# Altium schematic symbol library Capacitors.SCHLIB: 77 symbols (part 1 of 2)
Pins are listed as number, name and electrical type; pins without a type are passive.

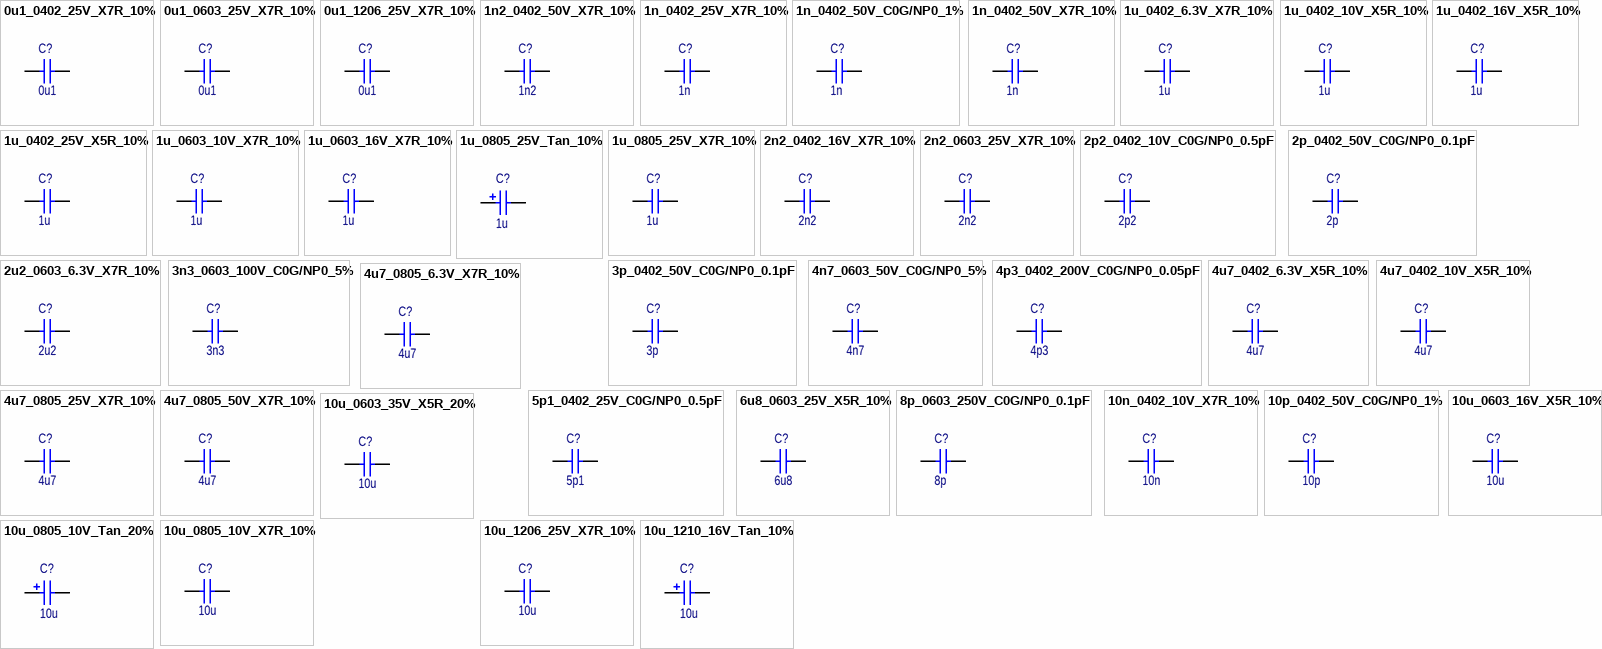
[diagram p0: symbols 0u1_0402_25V_X7R_10% to 10u_1210_16V_Tan_10%]

## 0u1_0402_25V_X7R_10%
designator C?, comment value 0u1  (hidden comment: CC0402KRX7R8BB104)
Capacitor; Ceramic; 0.1u; 0402; 25V; X7R; 10%; -55°C ~ 125°C; Manufacturer: Yageo; Manufacturer Part Number: CC0402KRX7R8BB104; Supplier 1: DigiKey; Supplier Part Number 1: 311-2077-6-ND; ComponentLink1Description: Datasheet; ComponentLink1URL: https://www.yageo.com/upload/media/product/productsearch/datasheet/mlcc/UPY-GPHC_X7R_6.3V-to-50V_18.pdf; ComponentLink2Description: Supplier Info; ComponentLink2URL: https://www.digikey.com/en/products/detail/yageo/CC0402KRX7R8BB104/5698946?s=N4IgTCBcDaIMwEYEFowAYDsHkDZkDkAREAXQF8g
footprint CAPC0402 (Chip Capacitor; Body 1.0x0.5mm (LxW typ) [0402], IPC High Density)
pins: 1, 2
1 alternate drawing of the same symbol

## 0u1_0603_25V_X7R_10%
designator C?, comment value 0u1  (hidden comment: CL10B104KA8NNNC)
Capacitor; Ceramic; 0.1u; 0603; 25V; X7R; 10%; -55°C ~ 125°C; Manufacturer: Samsung Electro-Mechanics; Manufacturer Part Number: CL10B104KA8NNNC; Supplier 1: DigiKey; Supplier Part Number 1: 1276-1006-6-ND; ComponentLink1Description: Datasheet; ComponentLink1URL: https://www.samsungsem.com/resources/file/global/support/product_catalog/MLCC.pdf; ComponentLink2Description: Supplier Info; ComponentLink2URL: https://www.digikey.com/en/products/detail/samsung-electro-mechanics/CL10B104KA8NNNC/3886664?s=N4IgTCBcDaIIxgOwDYC0cAMG1oHIBEQBdAXyA
footprint CAPC0603 (Chip Capacitor; Body 1.6x0.8mm (LxW typ) [0603], IPC High Density)
pins: 1, 2
1 alternate drawing of the same symbol

## 0u1_1206_25V_X7R_10%
designator C?, comment value 0u1  (hidden comment: AC1206KRX7R8BB104)
Capacitor; Ceramic; 0.1u; 1206; 25V; X7R; 10%; -55°C ~ 125°C; Manufacturer: Yageo; Manufacturer Part Number: AC1206KRX7R8BB104; Supplier 1: DigiKey; Supplier Part Number 1: 311-3229-6-ND; ComponentLink1Description: Datasheet; ComponentLink1URL: https://www.yageo.com/upload/media/product/productsearch/datasheet/mlcc/UPY-AC_NP0X7R_16V-to-630V_12.pdf; ComponentLink2Description: Supplier Info; ComponentLink2URL: https://www.digikey.com/en/products/detail/yageo/AC1206KRX7R8BB104/6643215?s=N4IgTCBcDaIMwEYEFo5jATmQNmQOQBEQBdAXyA
footprint CAPC1206 (Chip Capacitor; Body 3.2x1.6mm (LxW typ) [1206], IPC High Density)
pins: 1, 2
1 alternate drawing of the same symbol

## 1n2_0402_50V_X7R_10%
designator C?, comment value 1n2  (hidden comment: CL05B122KB5NNNC)
Capacitor; Ceramic; 1.2n; 0402; 50V; X7R; 10%; -55°C ~ 125°C; Manufacturer: Samsung Electro-Mechanics; Manufacturer Part Number: CL05B122KB5NNNC; Supplier 1: DigiKey; Supplier Part Number 1: 1276-1515-6-ND; ComponentLink1Description: Datasheet; ComponentLink1URL: https://www.samsungsem.com/resources/file/global/support/product_catalog/MLCC.pdf; ComponentLink2Description: Supplier Info; ComponentLink2URL: https://www.digikey.com/en/products/detail/samsung-electro-mechanics/CL05B122KB5NNNC/3887173?s=N4IgTCBcDaIIxgOwDYC0cCsnVoHIBEQBdAXyA
footprint CAPC0402 (Chip Capacitor; Body 1.0x0.5mm (LxW typ) [0402], IPC High Density)
pins: 1, 2
1 alternate drawing of the same symbol

## 1n_0402_25V_X7R_10%
designator C?, comment value 1n  (hidden comment: CC0402KRX7R8BB102)
Capacitor; Ceramic; 1n; 0402; 25V; X7R; 10%; -55°C ~ 125°C; Manufacturer: Yageo; Manufacturer Part Number: CC0402KRX7R8BB102; Supplier 1: DigiKey; Supplier Part Number 1: 311-1712-6-ND; ComponentLink1Description: Datasheet; ComponentLink1URL: https://www.yageo.com/upload/media/product/productsearch/datasheet/mlcc/UPY-GPHC_X7R_6.3V-to-50V_18.pdf; ComponentLink2Description: Supplier Info; ComponentLink2URL: https://www.digikey.com/en/products/detail/yageo/CC0402KRX7R8BB102/5195121?s=N4IgTCBcDaIMwEYEFoEHYFmQNmQOQBEQBdAXyA
footprint CAPC0402 (Chip Capacitor; Body 1.0x0.5mm (LxW typ) [0402], IPC High Density)
pins: 1, 2
1 alternate drawing of the same symbol

## 1n_0402_50V_C0G/NP0_1%
designator C?, comment value 1n  (hidden comment: GRM1555C1H102FA01D)
Capacitor; Ceramic; 1n; 0402; 50V; C0G/NP0; 1%; -55°C ~ 125°C; Manufacturer: Murata Electronics; Manufacturer Part Number: GRM1555C1H102FA01D; Supplier 1: DigiKey; Supplier Part Number 1: 490-6189-6-ND; ComponentLink1Description: Datasheet; ComponentLink1URL: https://search.murata.co.jp/Ceramy/image/img/A01X/G101/ENG/GRM1555C1H102FA01-01.pdf; ComponentLink2Description: Supplier Info; ComponentLink2URL: https://www.digikey.com/en/products/detail/murata-electronics/GRM1555C1H102FA01D/2543860?s=N4IgTCBcDaICwE4AMBaAbARgBwPSgcgCIgC6AvkA
footprint CAPC0402 (Chip Capacitor; Body 1.0x0.5mm (LxW typ) [0402], IPC High Density)
pins: 1, 2
1 alternate drawing of the same symbol

## 1n_0402_50V_X7R_10%
designator C?, comment value 1n  (hidden comment: GCM155R71H102KA37D)
Capacitor; Ceramic; 1n; 0402; 50V; X7R; 10%; -55°C ~ 125°C; Manufacturer: Murata Electronics; Manufacturer Part Number: GCM155R71H102KA37D; Supplier 1: DigiKey; Supplier Part Number 1: 490-4761-6-ND; ComponentLink1Description: Datasheet; ComponentLink1URL: https://search.murata.co.jp/Ceramy/image/img/A01X/G101/ENG/GCM155R71H102KA37-01.pdf; ComponentLink2Description: Supplier Info; ComponentLink2URL: https://www.digikey.com/en/products/detail/murata-electronics/GCM155R71H102KA37D/1641635?s=N4IgTCBcDaICwE4AMBaOB2AbARhZlAcgCIgC6AvkA
footprint CAPC0402 (Chip Capacitor; Body 1.0x0.5mm (LxW typ) [0402], IPC High Density)
pins: 1, 2
1 alternate drawing of the same symbol

## 1u_0402_6.3V_X7R_10%
designator C?, comment value 1u  (hidden comment: GRM155R70J105KA12J)
Capacitor; Ceramic; 1u; 0402; 6.3V; X7R; 10%; -55°C ~ 125°C; Manufacturer: Murata Electronics; Manufacturer Part Number: GRM155R70J105KA12J; Supplier 1: DigiKey; Supplier Part Number 1: 490-13339-6-ND; ComponentLink1Description: Datasheet; ComponentLink1URL: https://search.murata.co.jp/Ceramy/image/img/A01X/G101/ENG/GRM155R70J105KA12-01.pdf; ComponentLink2Description: Supplier Info; ComponentLink2URL: https://www.digikey.com/en/products/detail/murata-electronics/GRM155R70J105KA12J/4905166?s=N4IgTCBcDaICwE4AMBaAjAZiwlA2FAcgCIgC6AvkA
footprint CAPC0402 (Chip Capacitor; Body 1.0x0.5mm (LxW typ) [0402], IPC High Density)
pins: 1, 2
1 alternate drawing of the same symbol

## 1u_0402_10V_X5R_10%
designator C?, comment value 1u  (hidden comment: CL05A105KP5NNNC)
Capacitor; Ceramic; 1u; 0402; 10V; X5R; 10%; -55°C ~ 85°C; Manufacturer: Samsung Electro-Mechanics; Manufacturer Part Number: CL05A105KP5NNNC; Supplier 1: DigiKey; Supplier Part Number 1: 1276-1076-6-ND; ComponentLink1Description: Datasheet; ComponentLink1URL: https://www.samsungsem.com/resources/file/global/support/product_catalog/MLCC.pdf; ComponentLink2Description: Supplier Info; ComponentLink2URL: https://www.digikey.com/en/products/detail/samsung-electro-mechanics/CL05A105KP5NNNC/3886734?s=N4IgTCBcDaIIxgOwDYC0cAMLVoHIBEQBdAXyA
footprint CAPC0402 (Chip Capacitor; Body 1.0x0.5mm (LxW typ) [0402], IPC High Density)
pins: 1, 2
1 alternate drawing of the same symbol

## 1u_0402_16V_X5R_10%
designator C?, comment value 1u  (hidden comment: CL05A105KO5NNNC)
Capacitor; Ceramic; 1u; 0402; 16V; X5R; 10%; -55°C ~ 85°C; Manufacturer: Samsung Electro-Mechanics; Manufacturer Part Number: CL05A105KO5NNNC; Supplier 1: DigiKey; Supplier Part Number 1: 1276-1067-6-ND; ComponentLink1Description: Datasheet; ComponentLink1URL: https://media.digikey.com/pdf/Data%20Sheets/Samsung%20PDFs/CL05A105KO5NNNC_Spec_5-2-19.pdf; ComponentLink2Description: Supplier Info; ComponentLink2URL: https://www.digikey.com/en/products/detail/samsung-electro-mechanics/CL05A105KO5NNNC/3886725?s=N4IgTCBcDaIIxgOwDYC0cAMzGrQOQBEQBdAXyA
footprint CAPC0402 (Chip Capacitor; Body 1.0x0.5mm (LxW typ) [0402], IPC High Density)
pins: 1, 2
1 alternate drawing of the same symbol

## 1u_0402_25V_X5R_10%
designator C?, comment value 1u  (hidden comment: CGB2A1X5R1E105K033BC)
Capacitor; Ceramic; 1u; 0402; 25V; X5R; 10%; -55°C ~ 85°C; Manufacturer: TDK Corporation; Manufacturer Part Number: CGB2A1X5R1E105K033BC; Supplier 1: DigiKey; Supplier Part Number 1: 445-13185-6-ND; ComponentLink1Description: Datasheet; ComponentLink1URL: https://product.tdk.com/en/system/files?file=dam/doc/product/capacitor/ceramic/mlcc/catalog/mlcc_commercial_lowprofile_en.pdf; ComponentLink2Description: Supplier Info; ComponentLink2URL: https://www.digikey.com/en/products/detail/tdk-corporation/CGB2A1X5R1E105K033BC/3950421?s=N4IgTCBcDaICxwKwFoCMBmVAOFA2ZAcgCIgC6AvkA
footprint CAPC0402 (Chip Capacitor; Body 1.0x0.5mm (LxW typ) [0402], IPC High Density)
pins: 1, 2
1 alternate drawing of the same symbol

## 1u_0603_10V_X7R_10%
designator C?, comment value 1u  (hidden comment: CL10B105KP8NNNC)
Capacitor; Ceramic; 1u; 0603; 10V; X7R; 10%; -55°C ~ 125°C; Manufacturer: Samsung Electro-Mechanics; Manufacturer Part Number: CL10B105KP8NNNC; Supplier 1: DigiKey; Supplier Part Number 1: 1276-1946-6-ND; ComponentLink1Description: Datasheet; ComponentLink1URL: https://www.samsungsem.com/resources/file/global/support/product_catalog/MLCC.pdf; ComponentLink2Description: Supplier Info; ComponentLink2URL: https://www.digikey.com/en/products/detail/samsung-electro-mechanics/CL10B105KP8NNNC/3887604?s=N4IgTCBcDaIIxgOwDYC0cCcAWNaByAIiALoC%2BQA
footprint CAPC0603 (Chip Capacitor; Body 1.6x0.8mm (LxW typ) [0603], IPC High Density)
pins: 1, 2
1 alternate drawing of the same symbol

## 1u_0603_16V_X7R_10%
designator C?, comment value 1u  (hidden comment: CL10B105KO8NNNC)
Capacitor; Ceramic; 1u; 0603; 16V; X7R; 10%; -55°C ~ 125°C; Manufacturer: Samsung Electro-Mechanics; Manufacturer Part Number: CL10B105KO8NNNC; Supplier 1: DigiKey; Supplier Part Number 1: 1276-1019-6-ND; ComponentLink1Description: Datasheet; ComponentLink1URL: http://weblib.samsungsem.com/mlcc/mlcc-ec-data-sheet.do?partNumber=CL10B105KO8NNN; ComponentLink2Description: Supplier Info; ComponentLink2URL: https://www.digikey.com/en/products/detail/samsung-electro-mechanics/CL10B105KO8NNNC/3886677?s=N4IgTCBcDaIIxgOwDYC0cAMcCcq0DkAREAXQF8g
footprint CAPC0603 (Chip Capacitor; Body 1.6x0.8mm (LxW typ) [0603], IPC High Density)
pins: 1, 2
1 alternate drawing of the same symbol

## 1u_0805_25V_Tan_10%
designator C?, comment value 1u  (hidden comment: TPSR105K025R2500)
Capacitor; Tantalum; 1u; 0805; 25V; 10%; -55°C ~ 125°C; Manufacturer: AVX Corporation; Manufacturer Part Number: TPSR105K025R2500; Supplier 1: DigiKey; Supplier Part Number 1: 478-11121-1-ND; ComponentLink1Description: Datasheet; ComponentLink1URL: https://datasheets.avx.com/TPS.pdf; ComponentLink2Description: Supplier Info; ComponentLink2URL: https://www.digikey.com/en/products/detail/avx-corporation/TPSR105K025R2500/3068759?s=N4IgTCBcDaICwHYAcBaAjBsb0oHIBEQBdAXyA
signal-integrity model Cap
simulation model CAP
footprint CAPMP0805 (Molded Capacitor; Tantalum; Body 2.0x1.3mm (LxW typ) [0805], IPC High Density)
pins: 1, 2
1 alternate drawing of the same symbol

## 1u_0805_25V_X7R_10%
designator C?, comment value 1u  (hidden comment: C0805X105K3RAC3316)
Capacitor; Ceramic; 1u; 0805; 25V; X7R; 10%; -55°C ~ 125°C; Manufacturer: KEMET; Manufacturer Part Number: C0805X105K3RAC3316; Supplier 1: Mouser; Supplier Part Number 1: 80-C0805X105K3R3316; ComponentLink1Description: Datasheet; ComponentLink1URL: https://www.mouser.bg/datasheet/2/212/KEM_X7R_FT_VW_AUDI-1775098.pdf; ComponentLink2Description: Supplier Info; ComponentLink2URL: https://www.mouser.bg/ProductDetail/KEMET/C0805X105K3RAC3316?qs=%2Fha2pyFadugUkFrdBsG9lyeUNR97tVyHzH8clhG9RFr5Er5zhqrC%2FwdleYdd3vM5
footprint CAPC0805 (Chip Capacitor; Body 2.0x1.3mm (LxW typ) [0805], IPC High Density)
pins: 1, 2
1 alternate drawing of the same symbol

## 2n2_0402_16V_X7R_10%
designator C?, comment value 2n2  (hidden comment: CC0402KRX7R7BB222)
Capacitor; Ceramic; 2.2n; 0402; 16V; X7R; 10%; -55°C ~ 125°C; Manufacturer: Yageo; Manufacturer Part Number: CC0402KRX7R7BB222; Supplier 1: DigiKey; Supplier Part Number 1: 311-1707-6-ND; ComponentLink1Description: Datasheet; ComponentLink1URL: https://www.yageo.com/upload/media/product/productsearch/datasheet/mlcc/UPY-GPHC_X7R_6.3V-to-50V_18.pdf; ComponentLink2Description: Supplier Info; ComponentLink2URL: https://www.digikey.com/en/products/detail/yageo/CC0402KRX7R7BB222/5195116?s=N4IgTCBcDaIMwEYEFoEHYAMbkDZkDkAREAXQF8g
footprint CAPC0402 (Chip Capacitor; Body 1.0x0.5mm (LxW typ) [0402], IPC High Density)
pins: 1, 2
1 alternate drawing of the same symbol

## 2n2_0603_25V_X7R_10%
designator C?, comment value 2n2  (hidden comment: C0603C222K3RACTU)
Capacitor; Ceramic; 2.2n; 0603; 25V; X7R; 10%; -55°C ~ 125°C; Manufacturer: KEMET; Manufacturer Part Number: C0603C222K3RACTU; Supplier 1: DigiKey; Supplier Part Number 1: 399-9040-6-ND; ComponentLink1Description: Datasheet; ComponentLink1URL: https://content.kemet.com/datasheets/KEM_C1002_X7R_SMD.pdf; ComponentLink2Description: Supplier Info; ComponentLink2URL: https://www.digikey.com/en/products/detail/kemet/C0603C222K3RACTU/2200258?s=N4IgTCBcDaIMwE4EFoEAYAsbkDZkDkAREAXQF8g
footprint CAPC0603 (Chip Capacitor; Body 1.6x0.8mm (LxW typ) [0603], IPC High Density)
pins: 1, 2
1 alternate drawing of the same symbol

## 2p2_0402_10V_C0G/NP0_0.5pF
designator C?, comment value 2p2  (hidden comment: 885012005003)
Capacitor; Ceramic; 2.2p; 0402; 10V; C0G/NP0; +/-0.5pF; -55°C ~ 125°C; Manufacturer: Würth Elektronik; Manufacturer Part Number: 885012005003; Supplier 1: DigiKey; Supplier Part Number 1: 732-7421-6-ND; ComponentLink1Description: Datasheet; ComponentLink1URL: https://www.we-online.de/katalog/datasheet/885012005003.pdf; ComponentLink2Description: Supplier Info; ComponentLink2URL: https://www.digikey.com/en/products/detail/w%C3%BCrth-elektronik/885012005003/5453276?s=N4IgTCBcDaIOwGYwFo4BYwEZkDZkDkAREAXQF8g
footprint CAPC0402 (Chip Capacitor; Body 1.0x0.5mm (LxW typ) [0402], IPC High Density)
pins: 1, 2
1 alternate drawing of the same symbol

## 2p_0402_50V_C0G/NP0_0.1pF
designator C?, comment value 2p  (hidden comment: CC0402BRNPO9BN2R0)
Capacitor; Ceramic; 2p; 0402; 50V; C0G/NP0; +/-0.1pF; -55°C ~ 125°C; Manufacturer: Yageo; Manufacturer Part Number: CC0402BRNPO9BN2R0; Supplier 1: DigiKey; Supplier Part Number 1: 311-1617-6-ND; ComponentLink1Description: Datasheet; ComponentLink1URL: https://www.yageo.com/upload/media/product/productsearch/datasheet/mlcc/UPY-GP_NP0_16V-to-50V_18.pdf; ComponentLink2Description: Supplier Info; ComponentLink2URL: https://www.digikey.com/en/products/detail/yageo/CC0402BRNPO9BN2R0/5195026?s=N4IgTCBcDaIMwEYEFoEDYEHZluQOQBEQBdAXyA
footprint CAPC0402 (Chip Capacitor; Body 1.0x0.5mm (LxW typ) [0402], IPC High Density)
pins: 1, 2
1 alternate drawing of the same symbol

## 2u2_0603_6.3V_X7R_10%
designator C?, comment value 2u2  (hidden comment: CL10B225KQ8NFNC)
Capacitor; Ceramic; 2.2u; 0603; 6.3V; X7R; 10%; -55°C ~ 125°C; Manufacturer: Samsung Electro-Mechanics; Manufacturer Part Number: CL10B225KQ8NFNC; Supplier 1: DigiKey; Supplier Part Number 1: 1276-2017-6-ND; ComponentLink1Description: Datasheet; ComponentLink1URL: https://www.samsungsem.com/resources/file/global/support/product_catalog/MLCC.pdf; ComponentLink2Description: Supplier Info; ComponentLink2URL: https://www.digikey.com/en/products/detail/samsung-electro-mechanics/CL10B225KQ8NFNC/3887675?s=N4IgTCBcDaIIxgOwDYC0YAMdGrQOQBEQBdAXyA
footprint CAPC0603 (Chip Capacitor; Body 1.6x0.8mm (LxW typ) [0603], IPC High Density)
pins: 1, 2
1 alternate drawing of the same symbol

## 3n3_0603_100V_C0G/NP0_5%
designator C?, comment value 3n3  (hidden comment: C0603C332J1GAC7867)
Capacitor; Ceramic; 3.3n; 0603; 100V; C0G/NP0; 5%; -55°C ~ 125°C; Manufacturer: KEMET; Manufacturer Part Number: C0603C332J1GAC7867; Supplier 1: DigiKey; Supplier Part Number 1: 399-9970-2-ND; ComponentLink1Description: Datasheet; ComponentLink1URL: https://content.kemet.com/datasheets/KEM_C1003_C0G_SMD.pdf; ComponentLink2Description: Supplier Info; ComponentLink2URL: https://www.digikey.com/en/products/detail/kemet/C0603C332J1GAC7867/3737133?s=N4IgTCBcDaIMwE4EFokHYAMyzIHIBEQBdAXyA
footprint CAPC0603 (Chip Capacitor; Body 1.6x0.8mm (LxW typ) [0603], IPC High Density)
pins: 1, 2
1 alternate drawing of the same symbol

## 3p_0402_50V_C0G/NP0_0.1pF
designator C?, comment value 3p  (hidden comment: GJM1555C1H3R0BB01D)
Capacitor; Ceramic; 3p; 0402; 50V; C0G/NP0; +/-0.1pF; -55°C ~ 125°C; Manufacturer: Murata Electronics; Manufacturer Part Number: GJM1555C1H3R0BB01D; Supplier 1: DigiKey; Supplier Part Number 1: 490-8095-6-ND; ComponentLink1Description: Datasheet; ComponentLink1URL: https://search.murata.co.jp/Ceramy/image/img/A01X/G101/ENG/GJM1555C1H3R0BB01-01.pdf; ComponentLink2Description: Supplier Info; ComponentLink2URL: https://www.digikey.com/en/products/detail/murata-electronics/GJM1555C1H3R0BB01D/2592946?s=N4IgTCBcDaICwE4AMBaAHEhBWFA2FAcgCIgC6AvkA
footprint CAPC0402 (Chip Capacitor; Body 1.0x0.5mm (LxW typ) [0402], IPC High Density)
pins: 1, 2
1 alternate drawing of the same symbol

## 4n7_0603_50V_C0G/NP0_5%
designator C?, comment value 4n7  (hidden comment: C0603C472J5GACTU)
Capacitor; Ceramic; 4.7n; 0603; 50V; C0G/NP0; 5%; -55°C ~ 125°C; Manufacturer: KEMET; Manufacturer Part Number: C0603C472J5GACTU; Supplier 1: DigiKey; Supplier Part Number 1: 399-9090-6-ND; ComponentLink1Description: Datasheet; ComponentLink1URL: https://content.kemet.com/datasheets/KEM_C1003_C0G_SMD.pdf; ComponentLink2Description: Supplier Info; ComponentLink2URL: https://www.digikey.com/en/products/detail/kemet/C0603C472J5GACTU/2200836?s=N4IgTCBcDaIMwE4EFoEAZ3IGzIHIBEQBdAXyA
footprint CAPC0603 (Chip Capacitor; Body 1.6x0.8mm (LxW typ) [0603], IPC High Density)
pins: 1, 2
1 alternate drawing of the same symbol

## 4p3_0402_200V_C0G/NP0_0.05pF
designator C?, comment value 4p3  (hidden comment: 201R07S4R3AV4T)
Capacitor; Ceramic; 4.3p; 0402; 200V; C0G/NP0; +/-0.05pF; -55°C ~ 125°C; Manufacturer: Johanson Technology Inc.; Manufacturer Part Number: 201R07S4R3AV4T; Supplier 1: DigiKey; Supplier Part Number 1: 712-1681-6-ND; ComponentLink1Description: Datasheet; ComponentLink1URL: https://www.johansontechnology.com/downloads/catalog/johanson-technology-multi-layer-high-q-capacitors.pdf; ComponentLink2Description: Supplier Info; ComponentLink2URL: https://www.digikey.com/en/products/detail/johanson-technology-inc/201R07S4R3AV4T/9658850?s=N4IgTCBcDaIOwEYwFoEDYAcDluQOQBEQBdAXyA
footprint CAPC0402 (Chip Capacitor; Body 1.0x0.5mm (LxW typ) [0402], IPC High Density)
pins: 1, 2
1 alternate drawing of the same symbol

## 4u7_0402_6.3V_X5R_10%
designator C?, comment value 4u7  (hidden comment: CL05A475KQ5NRNC)
Capacitor; Ceramic; 4.7u; 0402; 6.3V; X5R; 10%; -55°C ~ 85°C; Manufacturer: Samsung Electro-Mechanics; Manufacturer Part Number: CL05A475KQ5NRNC; Supplier 1: DigiKey; Supplier Part Number 1: 1276-1481-6-ND; ComponentLink1Description: Datasheet; ComponentLink1URL: https://www.samsungsem.com/resources/file/global/support/product_catalog/MLCC.pdf; ComponentLink2Description: Supplier Info; ComponentLink2URL: https://www.digikey.com/en/products/detail/samsung-electro-mechanics/CL05A475KQ5NRNC/3887139?s=N4IgTCBcDaIIxgOwDYC0cAsAOOq0DkAREAXQF8g
footprint CAPC0402 (Chip Capacitor; Body 1.0x0.5mm (LxW typ) [0402], IPC High Density)
pins: 1, 2
1 alternate drawing of the same symbol

## 4u7_0402_10V_X5R_10%
designator C?, comment value 4u7  (hidden comment: CL05A475KP5NRNC)
Capacitor; Ceramic; 4.7u; 0402; 10V; X5R; 10%; -55°C ~ 85°C; Manufacturer: Samsung Electro-Mechanics; Manufacturer Part Number: CL05A475KP5NRNC; Supplier 1: DigiKey; Supplier Part Number 1: 1276-1480-6-ND; ComponentLink1Description: Datasheet; ComponentLink1URL: https://media.digikey.com/pdf/Data%20Sheets/Samsung%20PDFs/CL05A475KP5NRNC_Spec.pdf; ComponentLink2Description: Supplier Info; ComponentLink2URL: https://www.digikey.com/en/products/detail/samsung-electro-mechanics/CL05A475KP5NRNC/3887138?s=N4IgTCBcDaIIxgOwDYC0cAsAOADKtAcgCIgC6AvkA
footprint CAPC0402 (Chip Capacitor; Body 1.0x0.5mm (LxW typ) [0402], IPC High Density)
pins: 1, 2
1 alternate drawing of the same symbol

## 4u7_0805_6.3V_X7R_10%
designator C?, comment value 4u7  (hidden comment: CL21B475KQQNNNE)
Capacitor; Ceramic; 4.7u; 0805; 6.3V; X7R; 10%; -55°C ~ 125°C; Manufacturer: Samsung Electro-Mechanics; Manufacturer Part Number: CL21B475KQQNNNE; Supplier 1: DigiKey; Supplier Part Number 1: 1276-2974-6-ND; ComponentLink1Description: Datasheet; ComponentLink1URL: *; ComponentLink2Description: Supplier Info; ComponentLink2URL: https://www.digikey.com/en/products/detail/samsung-electro-mechanics/CL21B475KQQNNNE/3888632?s=N4IgTCBcDaIIxgOwDYC0YCciAsq0DkAREAXQF8g
footprint CAPC0805 (Chip Capacitor; Body 2.0x1.3mm (LxW typ) [0805], IPC High Density)
pins: 1, 2
1 alternate drawing of the same symbol

## 4u7_0805_25V_X7R_10%
designator C?, comment value 4u7  (hidden comment: CGA4J1X7R1E475K125AC)
Capacitor; Ceramic; 4.7u; 0805; 25V; X7R; 10%; -55°C ~ 125°C; Manufacturer: TDK Corporation; Manufacturer Part Number: CGA4J1X7R1E475K125AC; Supplier 1: DigiKey; Supplier Part Number 1: 445-6967-6-ND; ComponentLink1Description: Datasheet; ComponentLink1URL: https://product.tdk.com/en/system/files?file=dam/doc/product/capacitor/ceramic/mlcc/catalog/mlcc_automotive_general_en.pdf; ComponentLink2Description: Supplier Info; ComponentLink2URL: https://www.digikey.com/en/products/detail/tdk-corporation/CGA4J1X7R1E475K125AC/2672860?s=N4IgTCBcDaICxwKwFoBsBOVB2NyByAIiALoC%2BQA
footprint CAPC0805 (Chip Capacitor; Body 2.0x1.3mm (LxW typ) [0805], IPC High Density)
pins: 1, 2
1 alternate drawing of the same symbol

## 4u7_0805_50V_X7R_10%
designator C?, comment value 4u7  (hidden comment: CGA4J1X7R1H475K125AE)
Capacitor; Ceramic; 4.7u; 0805; 50V; X7R; 10%; -55°C ~ 125°C; Manufacturer: TDK Corporation; Manufacturer Part Number: CGA4J1X7R1H475K125AE; Supplier 1: DigiKey; Supplier Part Number 1: 445-181410-6-ND; ComponentLink1Description: Datasheet; ComponentLink1URL: https://product.tdk.com/en/system/files?file=dam/doc/product/capacitor/ceramic/mlcc/catalog/mlcc_automotive_soft_en.pdf; ComponentLink2Description: Supplier Info; ComponentLink2URL: https://www.digikey.com/en/products/detail/tdk-corporation/CGA4J1X7R1H475K125AE/9744776?s=N4IgTCBcDaICxwKwFoCMAOVdUAZkDZkA5AERAF0BfIA
footprint CAPC0805 (Chip Capacitor; Body 2.0x1.3mm (LxW typ) [0805], IPC High Density)
pins: 1, 2
1 alternate drawing of the same symbol

## 5p1_0402_25V_C0G/NP0_0.5pF
designator C?, comment value 5p1  (hidden comment: C0402C519D3GAC7867)
Capacitor; Ceramic; 5.1p; 0402; 25V; C0G/NP0; +/-0.5pF; -55°C ~ 125°C; Manufacturer: KEMET; Manufacturer Part Number: C0402C519D3GAC7867; Supplier 1: DigiKey; Supplier Part Number 1: 399-14919-6-ND; ComponentLink1Description: Datasheet; ComponentLink1URL: https://content.kemet.com/datasheets/KEM_C1003_C0G_SMD.pdf; ComponentLink2Description: Supplier Info; ComponentLink2URL: https://www.digikey.com/en/products/detail/kemet/C0402C519D3GAC7867/7382035?s=N4IgTCBcDaIMwE4EFoCMAWBqUDZkDkAREAXQF8g
footprint CAPC0402 (Chip Capacitor; Body 1.0x0.5mm (LxW typ) [0402], IPC High Density)
pins: 1, 2
1 alternate drawing of the same symbol

## 6u8_0603_25V_X5R_10%
designator C?, comment value 6u8  (hidden comment: C1608X5R1E685K080AC)
Capacitor; Ceramic; 6.8u; 0603; 25V; X5R; 10%; -55°C ~ 85°C; Manufacturer: TDK Corporation; Manufacturer Part Number: C1608X5R1E685K080AC; Supplier 1: DigiKey; Supplier Part Number 1: 445-14145-6-ND; ComponentLink1Description: Datasheet; ComponentLink1URL: https://product.tdk.com/en/system/files?file=dam/doc/product/capacitor/ceramic/mlcc/catalog/mlcc_commercial_general_en.pdf; ComponentLink2Description: Supplier Info; ComponentLink2URL: https://www.digikey.com/en/products/detail/tdk-corporation/C1608X5R1E685K080AC/3951381?s=N4IgTCBcDaICxwKwFoCMd0oGzIHIBEQBdAXyA
footprint CAPC0603 (Chip Capacitor; Body 1.6x0.8mm (LxW typ) [0603], IPC High Density)
pins: 1, 2
1 alternate drawing of the same symbol

## 8p_0603_250V_C0G/NP0_0.1pF
designator C?, comment value 8p  (hidden comment: CBR06C809BAGAC)
Capacitor; Ceramic; 8p; 0603; 250V; C0G/NP0; +/-0.1pF; -55°C ~ 125°C; Manufacturer: KEMET; Manufacturer Part Number: CBR06C809BAGAC; Supplier 1: DigiKey; Supplier Part Number 1: 399-8740-6-ND; ComponentLink1Description: Datasheet; ComponentLink1URL: https://content.kemet.com/datasheets/KEM_C1030_CBR_SMD.pdf; ComponentLink2Description: Supplier Info; ComponentLink2URL: https://www.digikey.com/en/products/detail/kemet/CBR06C809BAGAC/3480231?s=N4IgTCBcDaIMwE4EFoAcB2ALABmQNmQDkAREAXQF8g
footprint CAPC0603 (Chip Capacitor; Body 1.6x0.8mm (LxW typ) [0603], IPC High Density)
pins: 1, 2
1 alternate drawing of the same symbol

## 10n_0402_10V_X7R_10%
designator C?, comment value 10n  (hidden comment: C0402C103K8RACTU)
Capacitor; Ceramic; 10n; 0402; 10V; X7R; 10%; -55°C ~ 125°C; Manufacturer: KEMET; Manufacturer Part Number: C0402C103K8RACTU; Supplier 1: DigiKey; Supplier Part Number 1: 399-7759-6-ND; ComponentLink1Description: Datasheet; ComponentLink1URL: https://content.kemet.com/datasheets/KEM_C1002_X7R_SMD.pdf; ComponentLink2Description: Supplier Info; ComponentLink2URL: https://www.digikey.com/en/products/detail/kemet/C0402C103K8RACTU/2196222?s=N4IgTCBcDaIMwE4EFoDsqCsKBsyByAIiALoC%2BQA
footprint CAPC0402 (Chip Capacitor; Body 1.0x0.5mm (LxW typ) [0402], IPC High Density)
pins: 1, 2
1 alternate drawing of the same symbol

## 10p_0402_50V_C0G/NP0_1%
designator C?, comment value 10p  (hidden comment: CBR04C100F5GAC)
Capacitor; Ceramic; 10p; 0402; 50V; C0G/NP0; 1%; -55°C ~ 125°C; Manufacturer: KEMET; Manufacturer Part Number: CBR04C100F5GAC; Supplier 1: DigiKey; Supplier Part Number 1: 399-8805-6-ND; ComponentLink1Description: Datasheet; ComponentLink1URL: https://content.kemet.com/datasheets/KEM_C1030_CBR_SMD.pdf; ComponentLink2Description: Supplier Info; ComponentLink2URL: https://www.digikey.com/en/products/detail/kemet/CBR04C100F5GAC/3479710?s=N4IgTCBcDaIMwE4EFoAcqAMBWZA2ZAcgCIgC6AvkA
footprint CAPC0402 (Chip Capacitor; Body 1.0x0.5mm (LxW typ) [0402], IPC High Density)
pins: 1, 2
1 alternate drawing of the same symbol

## 10u_0603_16V_X5R_10%
designator C?, comment value 10u  (hidden comment: GRM188R61C106KAALD)
Capacitor; Ceramic; 10u; 0603; 16V; X5R; 10%; -55°C ~ 85°C; Manufacturer: Murata Electronics; Manufacturer Part Number: GRM188R61C106KAALD; Supplier 1: DigiKey; Supplier Part Number 1: 490-10728-6-ND; ComponentLink1Description: Datasheet; ComponentLink1URL: https://search.murata.co.jp/Ceramy/image/img/A01X/G101/ENG/GRM188R61C106KAAL-01.pdf; ComponentLink2Description: Supplier Info; ComponentLink2URL: https://www.digikey.com/en/products/detail/murata-electronics/GRM188R61C106KAALD/4905338?s=N4IgTCBcDaICwE4AMBaAjEg7GAHCgbCgHIAiIAugL5A
footprint CAPC0603 (Chip Capacitor; Body 1.6x0.8mm (LxW typ) [0603], IPC High Density)
pins: 1, 2
1 alternate drawing of the same symbol

## 10u_0603_35V_X5R_20%
designator C?, comment value 10u  (hidden comment: GRM188R6YA106MA73D)
Capacitor; Ceramic; 10u; 0603; 35V; X5R; 20%; -55°C ~ 85°C; Manufacturer: Murata Electronics; Manufacturer Part Number: GRM188R6YA106MA73D; Supplier 1: DigiKey; Supplier Part Number 1: 490-13248-6-ND; ComponentLink1Description: Datasheet; ComponentLink1URL: https://www.murata.com/-/media/webrenewal/support/library/catalog/products/capacitor/ceramiccapacitor/c02e.ashx?la=en-us&cvid=20210120024548000000; ComponentLink2Description: Supplier Info; ComponentLink2URL: https://www.digikey.com/en/products/detail/murata-electronics/GRM188R6YA106MA73D/5877411?s=N4IgTCBcDaICwE4AMBaAjAZjHAHCgbCgHIAiIAugL5A
footprint CAPC0603 (Chip Capacitor; Body 1.6x0.8mm (LxW typ) [0603], IPC High Density)
pins: 1, 2
1 alternate drawing of the same symbol

## 10u_0805_10V_Tan_20%
designator C?, comment value 10u  (hidden comment: TPSP106M010R2000)
Capacitor; Tantalum; 10u; 0805; 10V; 20%; -55°C ~ 125°C; Manufacturer: AVX Corporation; Manufacturer Part Number: TPSP106M010R2000; Supplier 1: DigiKey; Supplier Part Number 1: 478-9264-1-ND; ComponentLink1Description: Datasheet; ComponentLink1URL: https://datasheets.avx.com/TPS.pdf; ComponentLink2Description: Supplier Info; ComponentLink2URL: https://www.digikey.com/en/products/detail/avx-corporation/TPSP106M010R2000/3068756?s=N4IgTCBcDaICwHYAcBaAnGAbHFBGFAcgCIgC6AvkA
signal-integrity model Cap
simulation model CAP
footprint CAPMP0805 (Molded Capacitor; Tantalum; Body 2.0x1.3mm (LxW typ) [0805], IPC High Density)
pins: 1, 2
1 alternate drawing of the same symbol

## 10u_0805_10V_X7R_10%
designator C?, comment value 10u  (hidden comment: CL21B106KPQNNNE)
Capacitor; Ceramic; 10u; 0805; 10V; X7R; 10%; -55°C ~ 125°C; Manufacturer: Samsung Electro-Mechanics; Manufacturer Part Number: CL21B106KPQNNNE; Supplier 1: DigiKey; Supplier Part Number 1: 1276-1764-6-ND; ComponentLink1Description: Datasheet; ComponentLink1URL: https://www.samsungsem.com/resources/file/global/support/product_catalog/MLCC.pdf; ComponentLink2Description: Supplier Info; ComponentLink2URL: https://www.digikey.com/en/products/detail/samsung-electro-mechanics/CL21B106KPQNNNE/3887422?s=N4IgTCBcDaIIxgOwDYC0cUBZVoHIBEQBdAXyA
footprint CAPC0805 (Chip Capacitor; Body 2.0x1.3mm (LxW typ) [0805], IPC High Density)
pins: 1, 2
1 alternate drawing of the same symbol

## 10u_1206_25V_X7R_10%
designator C?, comment value 10u  (hidden comment: C3216X7R1E106K160AB)
Capacitor; Ceramic; 10u; 1206; 25V; X7R; 10%; -55°C ~ 125°C; Manufacturer: TDK Corporation; Manufacturer Part Number: C3216X7R1E106K160AB; Supplier 1: DigiKey; Supplier Part Number 1: 445-7705-6-ND; ComponentLink1Description: Datasheet; ComponentLink1URL: https://product.tdk.com/en/system/files?file=dam/doc/product/capacitor/ceramic/mlcc/catalog/mlcc_commercial_general_en.pdf; ComponentLink2Description: Supplier Info; ComponentLink2URL: https://www.digikey.com/en/products/detail/tdk-corporation/C3216X7R1E106K160AB/2733140?s=N4IgTCBcDaICxwKwFoDsqAMKBsyByAIiALoC%2BQA
footprint CAPC1206 (Chip Capacitor; Body 3.2x1.6mm (LxW typ) [1206], IPC High Density)
pins: 1, 2
1 alternate drawing of the same symbol

## 10u_1210_16V_Tan_10%
designator C?, comment value 10u  (hidden comment: TPST106K016H0800)
Capacitor; Tantalum; 10u; 1210; 16V; 10%; -55°C ~ 125°C; Manufacturer: AVX Corporation; Manufacturer Part Number: TPST106K016H0800; Supplier 1: DigiKey; Supplier Part Number 1: TPST106K016H0800-ND; ComponentLink1Description: Datasheet; ComponentLink1URL: https://datasheets.avx.com/TPS.pdf; ComponentLink2Description: Supplier Info; ComponentLink2URL: https://www.digikey.com/en/products/detail/avx-corporation/TPST106K016H0800/7056768?s=N4IgTCBcDaICoAUDKcCMAGAbAaXazAEugBzroC0AcgCIgC6AvkA
signal-integrity model Cap
simulation model CAP
footprint CAPMP1210 (Molded Capacitor; Tantalum; Body 3.2x2.5mm (LxW typ) [1210], IPC High Density)
pins: 1, 2
1 alternate drawing of the same symbol

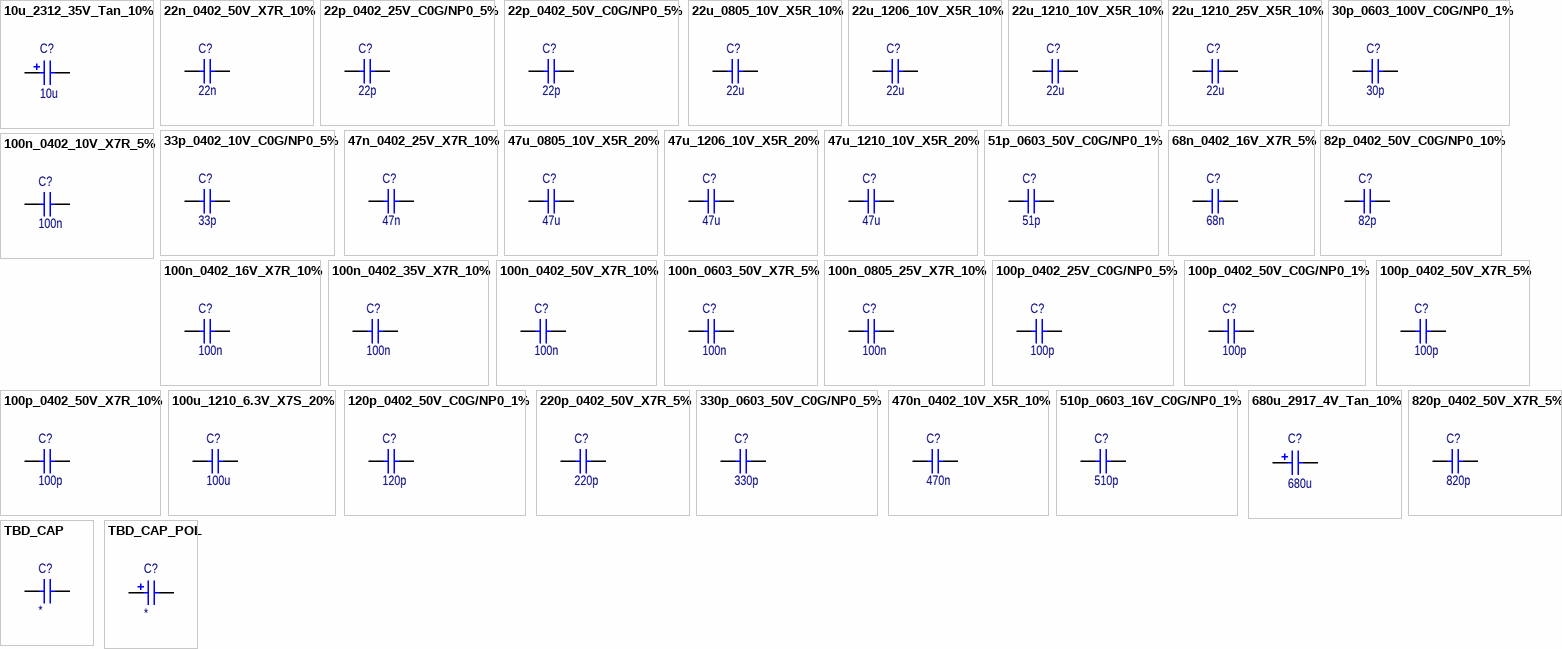
[diagram p1: symbols 10u_2312_35V_Tan_10% to TBD_CAP_POL]

## 10u_2312_35V_Tan_10%
designator C?, comment value 10u  (hidden comment: TR3C106K035C0450)
Capacitor; Tantalum; 10u; 2312; 35V; 10%; -55°C ~ 125°C; Manufacturer: Vishay Sprague; Manufacturer Part Number: TR3C106K035C0450; Supplier 1: DigiKey; Supplier Part Number 1: 718-1323-2-ND; ComponentLink1Description: Datasheet; ComponentLink1URL: https://www.vishay.com/docs/40080/tr3.pdf; ComponentLink2Description: Supplier Info; ComponentLink2URL: https://www.digikey.com/en/products/detail/vishay-sprague/TR3C106K035C0450/1579612?s=N4IgTCBcDaIOwEYAcBaBBmM6VhQOQBEQBdAXyA
signal-integrity model Cap
simulation model CAP
footprint CAPMP2312 (Molded Capacitor; Tantalum; Body 6.0x3.2mm (LxW typ) [2312], IPC High Density)
pins: 1, 2
1 alternate drawing of the same symbol

## 22n_0402_50V_X7R_10%
designator C?, comment value 22n  (hidden comment: GCM155R71H223KA55D)
Capacitor; Ceramic; 22n; 0402; 50V; X7R; 10%; -55°C ~ 125°C; Manufacturer: Murata Electronics; Manufacturer Part Number: GCM155R71H223KA55D; Supplier 1: DigiKey; Supplier Part Number 1: 490-4763-6-ND; ComponentLink1Description: Datasheet; ComponentLink1URL: https://search.murata.co.jp/Ceramy/image/img/A01X/G101/ENG/GCM155R71H223KA55-01.pdf; ComponentLink2Description: Supplier Info; ComponentLink2URL: https://www.digikey.com/en/products/detail/murata-electronics/GCM155R71H223KA55D/1641637?s=N4IgTCBcDaICwE4AMBaOB2AbAZhZlAcgCIgC6AvkA
footprint CAPC0402 (Chip Capacitor; Body 1.0x0.5mm (LxW typ) [0402], IPC High Density)
pins: 1, 2
1 alternate drawing of the same symbol

## 22p_0402_25V_C0G/NP0_5%
designator C?, comment value 22p  (hidden comment: 0402N220J250CT)
Capacitor; Ceramic; 22p; 0402; 25V; C0G/NP0; 5%; -55°C ~ 125°C; Manufacturer: Walsin Technology Corporation; Manufacturer Part Number: 0402N220J250CT; Supplier 1: DigiKey; Supplier Part Number 1: 1292-1282-6-ND; ComponentLink1Description: Datasheet; ComponentLink1URL: http://www.passivecomponent.com/wp-content/uploads/2018/10/MLCC.pdf; ComponentLink2Description: Supplier Info; ComponentLink2URL: https://www.digikey.com/en/products/detail/walsin-technology-corporation/0402N220J250CT/9354779?s=N4IgTCBcDaIIxgJxgLQIByoGwoHIBEQBdAXyA
footprint CAPC0402 (Chip Capacitor; Body 1.0x0.5mm (LxW typ) [0402], IPC High Density)
pins: 1, 2
1 alternate drawing of the same symbol

## 22p_0402_50V_C0G/NP0_5%
designator C?, comment value 22p  (hidden comment: CL05C220JB5NNNC)
Capacitor; Ceramic; 22p; 0402; 50V; C0G/NP0; 5%; -55°C ~ 125°C; Manufacturer: Samsung Electro-Mechanics; Manufacturer Part Number: CL05C220JB5NNNC; Supplier 1: DigiKey; Supplier Part Number 1: 1276-1116-6-ND; ComponentLink1Description: Datasheet; ComponentLink1URL: https://www.samsungsem.com/resources/file/global/support/product_catalog/MLCC.pdf; ComponentLink2Description: Supplier Info; ComponentLink2URL: https://www.digikey.com/en/products/detail/samsung-electro-mechanics/CL05C220JB5NNNC/3886774?s=N4IgTCBcDaIIxgOwDYC0cNrQOQCIgF0BfIA
footprint CAPC0402 (Chip Capacitor; Body 1.0x0.5mm (LxW typ) [0402], IPC High Density)
pins: 1, 2
1 alternate drawing of the same symbol

## 22u_0805_10V_X5R_10%
designator C?, comment value 22u  (hidden comment: CL21A226KPCLRNC)
Capacitor; Ceramic; 22u; 0805; 10V; X5R; 10%; -55°C ~ 85°C; Manufacturer: Samsung Electro-Mechanics; Manufacturer Part Number: CL21A226KPCLRNC; Supplier 1: DigiKey; Supplier Part Number 1: 1276-6786-6-ND; ComponentLink1Description: Datasheet; ComponentLink1URL: https://www.samsungsem.com/resources/file/global/support/product_catalog/MLCC.pdf; ComponentLink2Description: Supplier Info; ComponentLink2URL: https://www.digikey.com/en/products/detail/samsung-electro-mechanics/CL21A226KPCLRNC/5961270?s=N4IgTCBcDaIIxgOwDYC0zEA41oHIBEQBdAXyA
footprint CAPC0805 (Chip Capacitor; Body 2.0x1.3mm (LxW typ) [0805], IPC High Density)
pins: 1, 2
1 alternate drawing of the same symbol

## 22u_1206_10V_X5R_10%
designator C?, comment value 22u  (hidden comment: CL31A226KPHNNNE)
Capacitor; Ceramic; 22u; 1206; 10V; X5R; 10%; -55°C ~ 85°C; Manufacturer: Samsung Electro-Mechanics; Manufacturer Part Number: CL31A226KPHNNNE; Supplier 1: DigiKey; Supplier Part Number 1: 1276-1287-6-ND; ComponentLink1Description: Datasheet; ComponentLink1URL: https://www.samsungsem.com/resources/file/global/support/product_catalog/MLCC.pdf; ComponentLink2Description: Supplier Info; ComponentLink2URL: https://www.digikey.com/en/products/detail/samsung-electro-mechanics/CL31A226KPHNNNE/3886945?s=N4IgTCBcDaIIxgOwDYC0CAcjVoHIBEQBdAXyA
footprint CAPC1206 (Chip Capacitor; Body 3.2x1.6mm (LxW typ) [1206], IPC High Density)
pins: 1, 2
1 alternate drawing of the same symbol

## 22u_1210_10V_X5R_10%
designator C?, comment value 22u  (hidden comment: C1210C226K8PACTU)
Capacitor; Ceramic; 22u; 1210; 10V; X5R; 10%; -55°C ~ 85°C; Manufacturer: KEMET; Manufacturer Part Number: C1210C226K8PACTU; Supplier 1: DigiKey; Supplier Part Number 1: 399-3302-6-ND; ComponentLink1Description: Datasheet; ComponentLink1URL: https://content.kemet.com/datasheets/KEM_C1006_X5R_SMD.pdf; ComponentLink2Description: Supplier Info; ComponentLink2URL: https://www.digikey.com/en/products/detail/kemet/C1210C226K8PACTU/608480?s=N4IgTCBcDaIMwE4EFo5wAxmQNmQOQBEQBdAXyA
footprint CAPC1210 (Chip Capacitor; Body 3.2x2.5mm (LxW typ) [1210], IPC High Density)
pins: 1, 2
1 alternate drawing of the same symbol

## 22u_1210_25V_X5R_10%
designator C?, comment value 22u  (hidden comment: C1210C226K3PAC7210)
Capacitor; Ceramic; 22u; 1210; 25V; X5R; 10%; -55°C ~ 85°C; Manufacturer: KEMET; Manufacturer Part Number: C1210C226K3PAC7210; Supplier 1: Mouser; Supplier Part Number 1: 80-C1210C226K3P7210; ComponentLink1Description: Datasheet; ComponentLink1URL: https://www.mouser.bg/datasheet/2/212/KEM_C1006_X5R_SMD-1103249.pdf; ComponentLink2Description: Supplier Info; ComponentLink2URL: https://www.mouser.bg/ProductDetail/KEMET/C1210C226K3PAC7210?qs=%2Fha2pyFaduhU0hTh6EEUKNf4EK8Q%2FI%2FBqCCaxCePdJ0g2G35TctdqQCK0blOt1w9
footprint CAPC1210 (Chip Capacitor; Body 3.2x2.5mm (LxW typ) [1210], IPC High Density)
pins: 1, 2
1 alternate drawing of the same symbol

## 30p_0603_100V_C0G/NP0_1%
designator C?, comment value 30p  (hidden comment: 06031A300FAT2A)
Capacitor; Ceramic; 30p; 0603; 100V; C0G/NP0; 1%; -55°C ~ 125°C; Manufacturer: AVX Corporation; Manufacturer Part Number: 06031A300FAT2A; Supplier 1: DigiKey; Supplier Part Number 1: 478-11793-6-ND; ComponentLink1Description: Datasheet; ComponentLink1URL: https://datasheets.avx.com/C0GNP0-Dielectric.pdf; ComponentLink2Description: Supplier Info; ComponentLink2URL: https://www.digikey.com/en/products/detail/avx-corporation/06031A300FAT2A/1598461?s=N4IgTCBcDaICwHYAcBaAjGhBOAzCgbCgHIAiIAugL5A
footprint CAPC0603 (Chip Capacitor; Body 1.6x0.8mm (LxW typ) [0603], IPC High Density)
pins: 1, 2
1 alternate drawing of the same symbol

## 33p_0402_10V_C0G/NP0_5%
designator C?, comment value 33p  (hidden comment: C0402C330J8GAC7867)
Capacitor; Ceramic; 33p; 0402; 10V; C0G/NP0; 5%; -55°C ~ 125°C; Manufacturer: KEMET; Manufacturer Part Number: C0402C330J8GAC7867; Supplier 1: DigiKey; Supplier Part Number 1: 399-14904-6-ND; ComponentLink1Description: Datasheet; ComponentLink1URL: https://content.kemet.com/datasheets/KEM_C1003_C0G_SMD.pdf; ComponentLink2Description: Supplier Info; ComponentLink2URL: https://www.digikey.com/en/products/detail/kemet/C0402C330J8GAC7867/7382020?s=N4IgTCBcDaIMwE4EFoCMAWBAGdyBsyAcgCIgC6AvkA
footprint CAPC0402 (Chip Capacitor; Body 1.0x0.5mm (LxW typ) [0402], IPC High Density)
pins: 1, 2
1 alternate drawing of the same symbol

## 47n_0402_25V_X7R_10%
designator C?, comment value 47n  (hidden comment: CC0402KRX7R8BB473)
Capacitor; Ceramic; 47n; 0402; 25V; X7R; 10%; -55°C ~ 125°C; Manufacturer: Yageo; Manufacturer Part Number: CC0402KRX7R8BB473; Supplier 1: DigiKey; Supplier Part Number 1: 311-1717-6-ND; ComponentLink1Description: Datasheet; ComponentLink1URL: https://www.yageo.com/upload/media/product/productsearch/datasheet/mlcc/UPY-GPHC_X7R_6.3V-to-50V_18.pdf; ComponentLink2Description: Supplier Info; ComponentLink2URL: https://www.digikey.com/en/products/detail/yageo/CC0402KRX7R8BB473/5195126?s=N4IgTCBcDaIMwEYEFoEHZ3IGzIHIBEQBdAXyA
footprint CAPC0402 (Chip Capacitor; Body 1.0x0.5mm (LxW typ) [0402], IPC High Density)
pins: 1, 2
1 alternate drawing of the same symbol

## 47u_0805_10V_X5R_20%
designator C?, comment value 47u  (hidden comment: GRM21BR61A476ME15L)
Capacitor; Ceramic; 47u; 0805; 10V; X5R; 20%; -55°C ~ 85°C; Manufacturer: Murata Electronics; Manufacturer Part Number: GRM21BR61A476ME15L; Supplier 1: DigiKey; Supplier Part Number 1: 490-9961-6-ND; ComponentLink1Description: Datasheet; ComponentLink1URL: https://search.murata.co.jp/Ceramy/image/img/A01X/G101/ENG/GRM21BR61A476ME15-01.pdf; ComponentLink2Description: Supplier Info; ComponentLink2URL: https://www.digikey.com/en/products/detail/murata-electronics/GRM21BR61A476ME15L/4905529?s=N4IgTCBcDaICwE4AMBaBCBsBGFGUDkAREAXQF8g
footprint CAPC0805 (Chip Capacitor; Body 2.0x1.3mm (LxW typ) [0805], IPC High Density)
pins: 1, 2
1 alternate drawing of the same symbol

## 47u_1206_10V_X5R_20%
designator C?, comment value 47u  (hidden comment: CL31A476MPHNNNE)
Capacitor; Ceramic; 47u; 1206; 10V; X5R; 20%; -55°C ~ 85°C; Manufacturer: Samsung Electro-Mechanics; Manufacturer Part Number: CL31A476MPHNNNE; Supplier 1: DigiKey; Supplier Part Number 1: 1276-3063-6-ND; ComponentLink1Description: Datasheet; ComponentLink1URL: https://www.samsungsem.com/resources/file/global/support/product_catalog/MLCC.pdf; ComponentLink2Description: Supplier Info; ComponentLink2URL: https://www.digikey.com/en/products/detail/samsung-electro-mechanics/CL31A476MPHNNNE/3888721?s=N4IgTCBcDaIIxgOwDYC0BmADM9q0DkAREAXQF8g
footprint CAPC1206 (Chip Capacitor; Body 3.2x1.6mm (LxW typ) [1206], IPC High Density)
pins: 1, 2
1 alternate drawing of the same symbol

## 47u_1210_10V_X5R_20%
designator C?, comment value 47u  (hidden comment: CL32A476MPJNNNE)
Capacitor; Ceramic; 47u; 1210; 10V; X5R; 20%; -55°C ~ 85°C; Manufacturer: Samsung Electro-Mechanics; Manufacturer Part Number: CL32A476MPJNNNE; Supplier 1: DigiKey; Supplier Part Number 1: 1276-3380-6-ND; ComponentLink1Description: Datasheet; ComponentLink1URL: https://www.samsungsem.com/resources/file/global/support/product_catalog/MLCC.pdf; ComponentLink2Description: Supplier Info; ComponentLink2URL: https://www.digikey.com/en/products/detail/samsung-electro-mechanics/CL32A476MPJNNNE/3889038?s=N4IgTCBcDaIIxgOwDYC0BmdAOADKtAcgCIgC6AvkA
footprint CAPC1210 (Chip Capacitor; Body 3.2x2.5mm (LxW typ) [1210], IPC High Density)
pins: 1, 2
1 alternate drawing of the same symbol

## 51p_0603_50V_C0G/NP0_1%
designator C?, comment value 51p  (hidden comment: 06035A510FAT2A)
Capacitor; Ceramic; 51p; 0603; 50V; C0G/NP0; 1%; -55°C ~ 125°C; Manufacturer: AVX Corporation; Manufacturer Part Number: 06035A510FAT2A; Supplier 1: DigiKey; Supplier Part Number 1: 478-10325-6-ND; ComponentLink1Description: Datasheet; ComponentLink1URL: https://datasheets.avx.com/C0GNP0-Dielectric.pdf; ComponentLink2Description: Supplier Info; ComponentLink2URL: https://www.digikey.com/en/products/detail/avx-corporation/06035A510FAT2A/1599884?s=N4IgTCBcDaICwHYAcBaAjABgMxgKwoDYUA5AERAF0BfIA
footprint CAPC0603 (Chip Capacitor; Body 1.6x0.8mm (LxW typ) [0603], IPC High Density)
pins: 1, 2
1 alternate drawing of the same symbol

## 68n_0402_16V_X7R_5%
designator C?, comment value 68n  (hidden comment: C0402C683J4RAC7867)
Capacitor; Ceramic; 68n; 0402; 16V; X7R; 5%; -55°C ~ 125°C; Manufacturer: KEMET; Manufacturer Part Number: C0402C683J4RAC7867; Supplier 1: DigiKey; Supplier Part Number 1: 399-17560-6-ND; ComponentLink1Description: Datasheet; ComponentLink1URL: https://content.kemet.com/datasheets/KEM_C1002_X7R_SMD.pdf; ComponentLink2Description: Supplier Info; ComponentLink2URL: https://www.digikey.com/en/products/detail/kemet/C0402C683J4RAC7867/8572395?s=N4IgTCBcDaIMwE4EFoCMB2ArANgAzO2QDkAREAXQF8g
footprint CAPC0402 (Chip Capacitor; Body 1.0x0.5mm (LxW typ) [0402], IPC High Density)
pins: 1, 2
1 alternate drawing of the same symbol

## 82p_0402_50V_C0G/NP0_10%
designator C?, comment value 82p  (hidden comment: C0402C820K5GAC7867)
Capacitor; Ceramic; 82p; 0402; 50V; C0G/NP0; 10%; -55°C ~ 125°C; Manufacturer: KEMET; Manufacturer Part Number: C0402C820K5GAC7867; Supplier 1: DigiKey; Supplier Part Number 1: 399-17385-6-ND; ComponentLink1Description: Datasheet; ComponentLink1URL: https://content.kemet.com/datasheets/KEM_C1003_C0G_SMD.pdf; ComponentLink2Description: Supplier Info; ComponentLink2URL: https://www.digikey.com/en/products/detail/kemet/C0402C820K5GAC7867/2196953?s=N4IgTCBcDaIMwE4EFoCMB2OAOArMgbMgHIAiIAugL5A
footprint CAPC0402 (Chip Capacitor; Body 1.0x0.5mm (LxW typ) [0402], IPC High Density)
pins: 1, 2
1 alternate drawing of the same symbol

## 100n_0402_10V_X7R_5%
designator C?, comment value 100n  (hidden comment: C0402C104J8RACTU)
Capacitor; Ceramic; 100n; 0402; 10V; X7R; 5%; -55°C ~ 125°C; Manufacturer: KEMET; Manufacturer Part Number: C0402C104J8RACTU; Supplier 1: DigiKey; Supplier Part Number 1: 399-8942-6-ND; ComponentLink1Description: Datasheet; ComponentLink1URL: https://content.kemet.com/datasheets/KEM_C1002_X7R_SMD.pdf; ComponentLink2Description: Supplier Info; ComponentLink2URL: https://www.digikey.com/en/products/detail/kemet/C0402C104J8RACTU/2196231?s=N4IgTCBcDaIMwE4EFoAcCAsZkDZkDkAREAXQF8g
footprint CAPC0402 (Chip Capacitor; Body 1.0x0.5mm (LxW typ) [0402], IPC High Density)
pins: 1, 2
1 alternate drawing of the same symbol

## 100n_0402_16V_X7R_10%
designator C?, comment value 100n  (hidden comment: CL05B104KO5NNNC)
Capacitor; Ceramic; 100n; 0402; 16V; X7R; 10%; -55°C ~ 125°C; Manufacturer: Samsung Electro-Mechanics; Manufacturer Part Number: CL05B104KO5NNNC; Supplier 1: DigiKey; Supplier Part Number 1: 1276-1001-6-ND; ComponentLink1Description: Datasheet; ComponentLink1URL: https://media.digikey.com/pdf/Data%20Sheets/Samsung%20PDFs/CL05B104KO5NNNC.pdf; ComponentLink2Description: Supplier Info; ComponentLink2URL: https://www.digikey.com/en/products/detail/samsung-electro-mechanics/CL05B104KO5NNNC/3886659?s=N4IgTCBcDaIIxgOwDYC0cAMG6rQOQBEQBdAXyA
footprint CAPC0402 (Chip Capacitor; Body 1.0x0.5mm (LxW typ) [0402], IPC High Density)
pins: 1, 2
1 alternate drawing of the same symbol

## 100n_0402_35V_X7R_10%
designator C?, comment value 100n  (hidden comment: CGA2B3X7R1V104K050BB)
Capacitor; Ceramic; 100n; 0402; 35V; X7R; 10%; -55°C ~ 125°C; Manufacturer: TDK Corporation; Manufacturer Part Number: CGA2B3X7R1V104K050BB; Supplier 1: DigiKey; Supplier Part Number 1: 445-6901-6-ND; ComponentLink1Description: Datasheet; ComponentLink1URL: https://product.tdk.com/info/en/catalog/datasheets/mlcc_automotive_general_en.pdf?ref_disty=digikey; ComponentLink2Description: Supplier Info; ComponentLink2URL: https://www.digikey.com/en/products/detail/tdk-corporation/CGA2B3X7R1V104K050BB/2672794?s=N4IgTCBcDaICxwKwFoBsBOADARjcgcgCIgC6AvkA
footprint CAPC0402 (Chip Capacitor; Body 1.0x0.5mm (LxW typ) [0402], IPC High Density)
pins: 1, 2
1 alternate drawing of the same symbol

## 100n_0402_50V_X7R_10%
designator C?, comment value 100n  (hidden comment: CGA2B3X7R1H104K050BB)
Capacitor; Ceramic; 100n; 0402; 50V; X7R; 10%; -55°C ~ 125°C; Manufacturer: TDK Corporation; Manufacturer Part Number: CGA2B3X7R1H104K050BB; Supplier 1: DigiKey; Supplier Part Number 1: 445-6899-6-ND; ComponentLink1Description: Datasheet; ComponentLink1URL: https://product.tdk.com/en/system/files?file=dam/doc/product/capacitor/ceramic/mlcc/catalog/mlcc_automotive_general_en.pdf; ComponentLink2Description: Supplier Info; ComponentLink2URL: https://www.digikey.com/en/products/detail/tdk-corporation/CGA2B3X7R1H104K050BB/2672792?s=N4IgTCBcDaICxwKwFoBsAOAnJtyByAIiALoC%2BQA
footprint CAPC0402 (Chip Capacitor; Body 1.0x0.5mm (LxW typ) [0402], IPC High Density)
pins: 1, 2
1 alternate drawing of the same symbol

## 100n_0603_50V_X7R_5%
designator C?, comment value 100n  (hidden comment: CC0603JRX7R9BB104)
Capacitor; Ceramic; 100n; 0603; 50V; X7R; 5%; -55°C ~ 125°C; Manufacturer: Yageo; Manufacturer Part Number: CC0603JRX7R9BB104; Supplier 1: DigiKey; Supplier Part Number 1: 311-1779-6-ND; ComponentLink1Description: Datasheet; ComponentLink1URL: https://www.yageo.com/upload/media/product/productsearch/datasheet/mlcc/UPY-GPHC_X7R_6.3V-to-50V_18.pdf; ComponentLink2Description: Supplier Info; ComponentLink2URL: https://www.digikey.com/en/products/detail/yageo/CC0603JRX7R9BB104/5195188?s=N4IgTCBcDaIMwEYEFoEHY0E5kDZkDkAREAXQF8g
footprint CAPC0603 (Chip Capacitor; Body 1.6x0.8mm (LxW typ) [0603], IPC High Density)
pins: 1, 2
1 alternate drawing of the same symbol

## 100n_0805_25V_X7R_10%
designator C?, comment value 100n  (hidden comment: CC0805KRX7R8BB104)
Capacitor; Ceramic; 100n; 0805; 25V; X7R; 10%; -55°C ~ 125°C; Manufacturer: Yageo; Manufacturer Part Number: CC0805KRX7R8BB104; Supplier 1: DigiKey; Supplier Part Number 1: 311-1141-6-ND; ComponentLink1Description: Datasheet; ComponentLink1URL: https://www.yageo.com/upload/media/product/productsearch/datasheet/mlcc/UPY-GPHC_X7R_6.3V-to-50V_18.pdf; ComponentLink2Description: Supplier Info; ComponentLink2URL: https://www.digikey.com/en/products/detail/yageo/CC0805KRX7R8BB104/302875?s=N4IgTCBcDaIMwEYEFokBYUDZkDkAiIAugL5A
footprint CAPC0805 (Chip Capacitor; Body 2.0x1.3mm (LxW typ) [0805], IPC High Density)
pins: 1, 2
1 alternate drawing of the same symbol

## 100p_0402_25V_C0G/NP0_5%
designator C?, comment value 100p  (hidden comment: C0402C101J3GACTU)
Capacitor; Ceramic; 100p; 0402; 25V; C0G/NP0; 5%; -55°C ~ 125°C; Manufacturer: KEMET; Manufacturer Part Number: C0402C101J3GACTU; Supplier 1: DigiKey; Supplier Part Number 1: 399-1022-6-ND; ComponentLink1Description: Datasheet; ComponentLink1URL: https://content.kemet.com/datasheets/KEM_C1003_C0G_SMD.pdf; ComponentLink2Description: Supplier Info; ComponentLink2URL: https://www.digikey.com/en/products/detail/kemet/C0402C101J3GACTU/411024?s=N4IgTCBcDaIMwE4EFoCMAGMZkDZkDkAREAXQF8g
footprint CAPC0402 (Chip Capacitor; Body 1.0x0.5mm (LxW typ) [0402], IPC High Density)
pins: 1, 2
1 alternate drawing of the same symbol

## 100p_0402_50V_C0G/NP0_1%
designator C?, comment value 100p  (hidden comment: CC0402FRNPO9BN101)
Capacitor; Ceramic; 100p; 0402; 50V; C0G/NP0; 1%; -55°C ~ 125°C; Manufacturer: Yageo; Manufacturer Part Number: CC0402FRNPO9BN101; Supplier 1: DigiKey; Supplier Part Number 1: 311-3329-1-ND; ComponentLink1Description: Datasheet; ComponentLink1URL: https://www.yageo.com/upload/media/product/productsearch/datasheet/mlcc/UPY-GP_NP0_16V-to-50V_18.pdf; ComponentLink2Description: Supplier Info; ComponentLink2URL: https://www.digikey.com/en/products/detail/yageo/CC0402FRNPO9BN101/5021207?s=N4IgTCBcDaIMwEYEFo5zATmSgcgERAF0BfIA
footprint CAPC0402 (Chip Capacitor; Body 1.0x0.5mm (LxW typ) [0402], IPC High Density)
pins: 1, 2
1 alternate drawing of the same symbol